# EAGLE library part PIC32MX664F128H (library icnh)
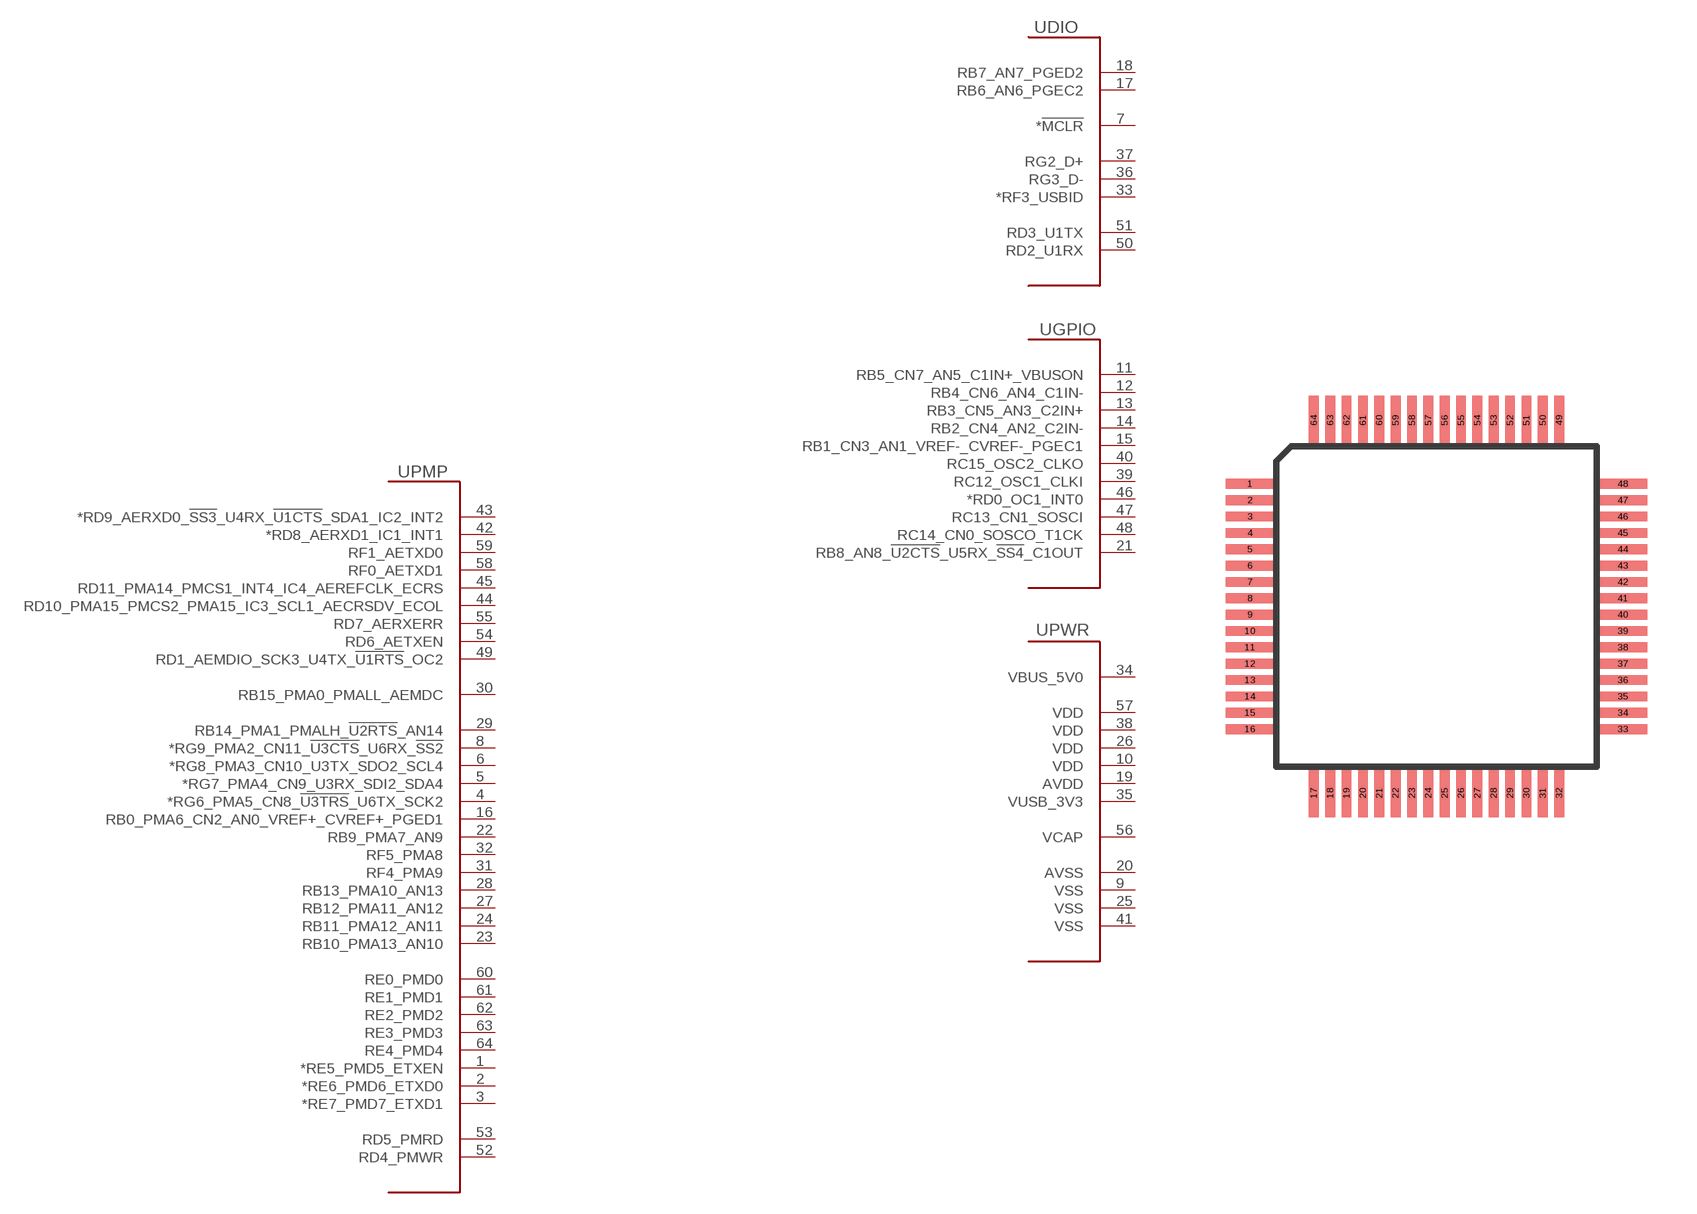
[diagram p11: symbol with the pads of TQFP64; footprint TQFP64]

Designator prefix U; gates PMP=PIC32MX664F128H_ETH_PMP DIO=PIC32_DIO GPIO=PIC32_GPIO PWR=PIC32_POWER

## PIC32MX664F128H  [TQFP64]
1  PMP:*RE5_PMD5_ETXEN
2  PMP:*RE6_PMD6_ETXD0
3  PMP:*RE7_PMD7_ETXD1
4  PMP:*RG6_PMA5_CN8_!U3TRS!_U6TX_SCK2
5  PMP:*RG7_PMA4_CN9_U3RX_SDI2_SDA4
6  PMP:*RG8_PMA3_CN10_U3TX_SDO2_SCL4
7  DIO:*!MCLR!
8  PMP:*RG9_PMA2_CN11_!U3CTS!_U6RX_!SS2!
9  PWR:VSS
10  PWR:VDD
11  GPIO:RB5_CN7_AN5_C1IN+_VBUSON
12  GPIO:RB4_CN6_AN4_C1IN-
13  GPIO:RB3_CN5_AN3_C2IN+
14  GPIO:RB2_CN4_AN2_C2IN-
15  GPIO:RB1_CN3_AN1_VREF-_CVREF-_PGEC1
16  PMP:RB0_PMA6_CN2_AN0_VREF+_CVREF+_PGED1
17  DIO:RB6_AN6_PGEC2
18  DIO:RB7_AN7_PGED2
19  PWR:AVDD
20  PWR:AVSS
21  GPIO:RB8_AN8_!U2CTS!_U5RX_!SS4!_C1OUT
22  PMP:RB9_PMA7_AN9
23  PMP:RB10_PMA13_AN10
24  PMP:RB11_PMA12_AN11
25  PWR:VSS
26  PWR:VDD
27  PMP:RB12_PMA11_AN12
28  PMP:RB13_PMA10_AN13
29  PMP:RB14_PMA1_PMALH_!U2RTS!_AN14
30  PMP:RB15_PMA0_PMALL_AEMDC
31  PMP:RF4_PMA9
32  PMP:RF5_PMA8
33  DIO:*RF3_USBID
34  PWR:VBUS_5V0
35  PWR:VUSB_3V3
36  DIO:RG3_D-
37  DIO:RG2_D+
38  PWR:VDD
39  GPIO:RC12_OSC1_CLKI
40  GPIO:RC15_OSC2_CLKO
41  PWR:VSS
42  PMP:*RD8_AERXD1_IC1_INT1
43  PMP:*RD9_AERXD0_!SS3!_U4RX_!U1CTS!_SDA1_IC2_INT2
44  PMP:RD10_PMA15_PMCS2_PMA15_IC3_SCL1_AECRSDV_ECOL
45  PMP:RD11_PMA14_PMCS1_INT4_IC4_AEREFCLK_ECRS
46  GPIO:*RD0_OC1_INT0
47  GPIO:RC13_CN1_SOSCI
48  GPIO:RC14_CN0_SOSCO_T1CK
49  PMP:RD1_AEMDIO_SCK3_U4TX_!U1RTS!_OC2
50  DIO:RD2_U1RX
51  DIO:RD3_U1TX
52  PMP:RD4_PMWR
53  PMP:RD5_PMRD
54  PMP:RD6_AETXEN
55  PMP:RD7_AERXERR
56  PWR:VCAP
57  PWR:VDD
58  PMP:RF0_AETXD1
59  PMP:RF1_AETXD0
60  PMP:RE0_PMD0
61  PMP:RE1_PMD1
62  PMP:RE2_PMD2
63  PMP:RE3_PMD3
64  PMP:RE4_PMD4

## Footprint TQFP64 (pad centres in mm)
smd 1.5 x 0.3: 1 -5.7,3.75; 2 -5.7,3.25; 3 -5.7,2.75; 4 -5.7,2.25; 5 -5.7,1.75; 6 -5.7,1.25; 7 -5.7,0.75; 8 -5.7,0.25; 9 -5.7,-0.25; 10 -5.7,-0.75; 11 -5.7,-1.25; 12 -5.7,-1.75; 13 -5.7,-2.25; 14 -5.7,-2.75; 15 -5.7,-3.25; 16 -5.7,-3.75; 33 5.7,-3.75; 34 5.7,-3.25; 35 5.7,-2.75; 36 5.7,-2.25; 37 5.7,-1.75; 38 5.7,-1.25; 39 5.7,-0.75; 40 5.7,-0.25; 41 5.7,0.25; 42 5.7,0.75; 43 5.7,1.25; 44 5.7,1.75; 45 5.7,2.25; 46 5.7,2.75; 47 5.7,3.25; 48 5.7,3.75
smd 0.3 x 1.5: 17 -3.75,-5.7; 18 -3.25,-5.7; 19 -2.75,-5.7; 20 -2.25,-5.7; 21 -1.75,-5.7; 22 -1.25,-5.7; 23 -0.75,-5.7; 24 -0.25,-5.7; 25 0.25,-5.7; 26 0.75,-5.7; 27 1.25,-5.7; 28 1.75,-5.7; 29 2.25,-5.7; 30 2.75,-5.7; 31 3.25,-5.7; 32 3.75,-5.7; 49 3.75,5.7; 50 3.25,5.7; 51 2.75,5.7; 52 2.25,5.7; 53 1.75,5.7; 54 1.25,5.7; 55 0.75,5.7; 56 0.25,5.7; 57 -0.25,5.7; 58 -0.75,5.7; 59 -1.25,5.7; 60 -1.75,5.7; 61 -2.25,5.7; 62 -2.75,5.7; 63 -3.25,5.7; 64 -3.75,5.7